# EAGLE library part TPS63020 (library DMF-TPS63020_SON-N14)
Not tested yet In progress TPS63020 Device with SON-N14 package having extended pads. Still have not added the PowerPad beneath the chip! Still have not checked the soldermask distances, & etc etc.
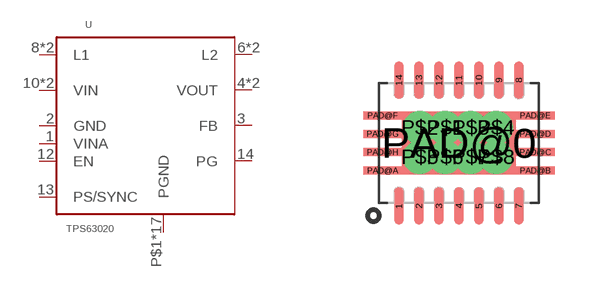
[diagram p0: symbol with the pads of SON-N14; footprint SON-N14]

Designator prefix U

## TPS63020  [SON-N14]
1  VINA
2  GND  pwr
3  FB
4  VOUT
5  VOUT
6  L2
7  L2
8  L1
9  L1
10  VIN
11  VIN
12  EN
13  PS/SYNC
14  PG
P$1  PGND
P$2  PGND
P$3  PGND
P$4  PGND
P$5  PGND
P$6  PGND
P$7  PGND
P$8  PGND
PAD@0  PGND
PAD@A  PGND
PAD@B  PGND
PAD@C  PGND
PAD@D  PGND
PAD@E  PGND
PAD@F  PGND
PAD@G  PGND
PAD@H  PGND

## Footprint SON-N14 (pad centres in mm)
Not yet tested SON-N14 with elongated pads (0.8 x 0.24) for TPS63020 Still need to do - "After the pad is there and sized right, you need to add in the cream (solder paste) layer. You'll be drawing the cut-outs in the stencil with the rectangle tool. Use the rectangle tool to draw the stencil cut-outs. Set the rectangle to the "Cream" layer. In my installation of Eagle, the Cream layer defaults to layer 31."
smd 0.24 x 0.95: 1 -1.5,-1.575; 2 -1,-1.575; 3 -0.5,-1.575; 4 0,-1.575; 5 0.5,-1.575; 6 1,-1.575; 7 1.5,-1.575; 8 1.5,1.575; 9 1,1.575; 10 0.5,1.575; 11 0,1.575; 12 -0.5,1.575; 13 -1,1.575; 14 -1.5,1.575
drill 0.33 pad 0.559: P$1 -0.346,0.383; P$2 -0.981,0.383; P$3 0.289,0.383; P$4 0.924,0.383; P$5 -0.981,-0.352; P$6 -0.346,-0.352; P$7 0.289,-0.352; P$8 0.924,-0.352
smd 2.85 x 1.58: PAD@0 0,0
smd 0.975 x 0.2: PAD@A -1.91,-0.69; PAD@B 1.91,-0.69; PAD@C 1.91,-0.23; PAD@D 1.91,0.23; PAD@E 1.91,0.69; PAD@F -1.91,0.69; PAD@G -1.91,0.23; PAD@H -1.91,-0.23